# Altium footprint library SSCI Nov-27.PcbLib: 1 footprints
Each footprint in its own frame and in the unit in brackets; x right, y up, seen from the top. Pads: shape width x height; smd on the part's side, far side on the other; paste and mask are expansions set on the pad; w line width, h text height; cw(c..) or ccw(c..) is an arc to the next point about the centre after c.
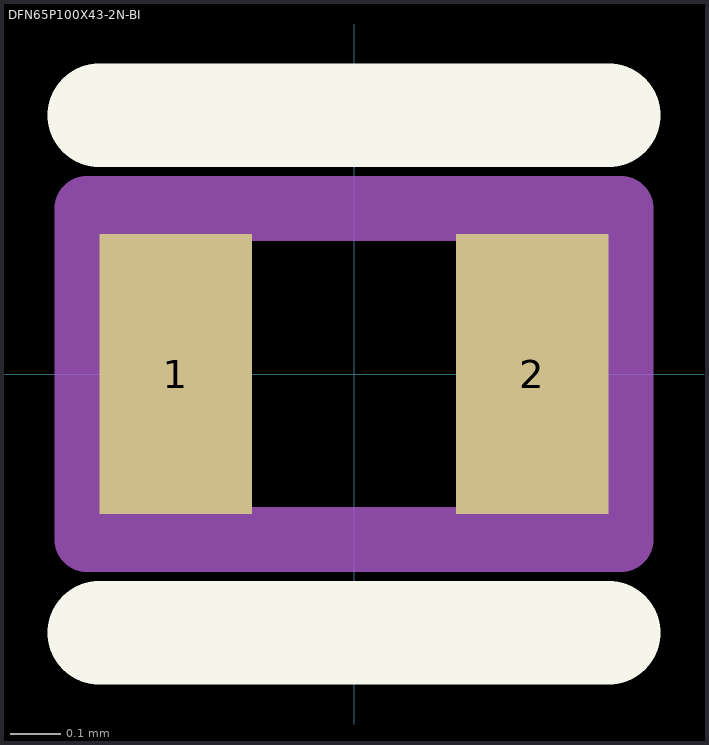
[diagram p0: the footprint, top view; thin cyan lines are the x and y axes]

## DFN65P100X43-2N-BI [mm] "DFN, 2-Leads, Body 0.60x1.00mm, Pitch 0.65mm, IPC Medium Density"
height 0.43
pads (2):
  rect 0.3x0.55 smd mask+0.051: 1(-0.35,0) 2(0.35,0)
Top Overlay:
  lines w0.203: -0.5,-0.508 0.5,-0.508 ; -0.5,0.508 0.5,0.508
Mechanical 1:
  text ".Designator" at 0,-0.01 h0.76
Mechanical 15:
  lines w0.127: -0.525,-0.325 -0.525,0.325 0.525,0.325 0.525,-0.325 -0.525,-0.325
3D body "DFN65P100X43-2N.step": height 0.43, standoff 0, extent -0.525,-0.325 0.525,0.325